# Altium integrated library VPP24-1250.IntLib: 1 symbol
Pins are listed as number, name and electrical type; pins without a type are passive.

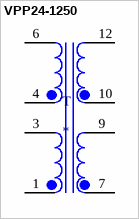
[diagram p0: symbol VPP24-1250]

## VPP24-1250
designator T
Power Transformer 4000Vrms Dual Prim. Dual Sec. 230V/115V Prim. 24V/12V Sec. Through Hole; MP: VPP24-1250; MF: Triad Magnetics; Price: None; Package: Triad Magnetics; Availability: Unavailable; SnapEDA_Link: https://www.snapeda.com/parts/VPP24-1250/Triad%20Magnetics/view-part/332954/?ref=snap; Value: *
footprint XFMR_VPP24-1250
pins: 1, 3, 4, 6, 7, 9, 10, 12